# EAGLE library part SSW-122-02-S-Q (library con-samtec)
THROUGH-HOLE .025" SQ POST SOCKET Source: Samtec SSW.pdf
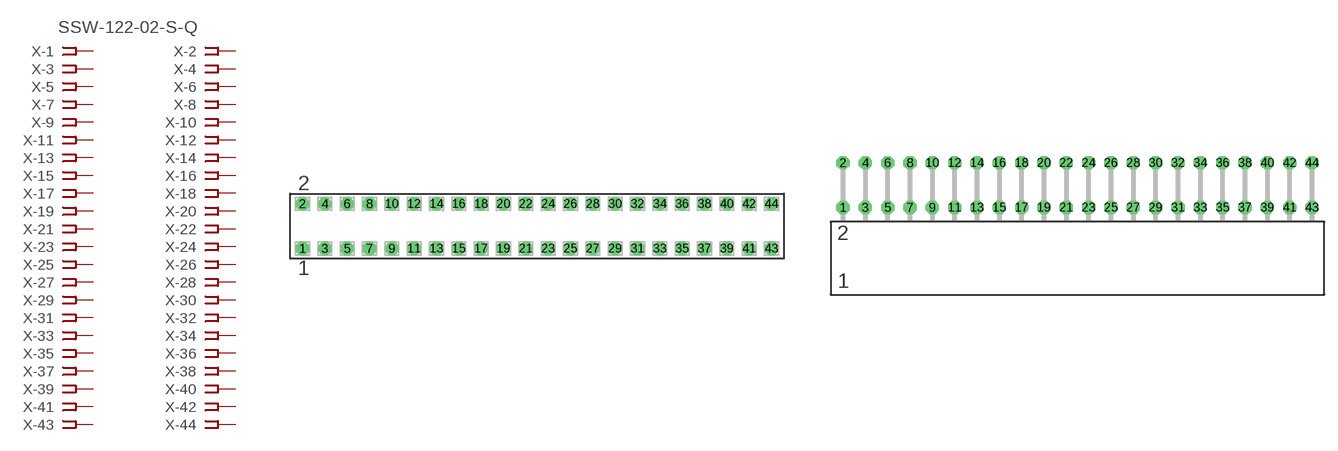
[diagram p126: symbol with the pads of SSW-122-02-S-Q; footprints SSW-122-02-S-Q, SSW-122-02-S-Q-RA]

Designator prefix X; gates -1=FPINV -2=FPIN -3=FPIN -4=FPIN -5=FPIN -6=FPIN -7=FPIN -8=FPIN -9=FPIN -10=FPIN -11=FPIN -12=FPIN -13=FPIN -14=FPIN -15=FPIN -16=FPIN -17=FPIN -18=FPIN -19=FPIN -20=FPIN -21=FPIN -22=FPIN -23=FPIN -24=FPIN -25=FPIN -26=FPIN -27=FPIN -28=FPIN -29=FPIN -30=FPIN -31=FPIN -32=FPIN -33=FPIN -34=FPIN -35=FPIN -36=FPIN -37=FPIN -38=FPIN -39=FPIN -40=FPIN -41=FPIN -42=FPIN -43=FPIN -44=FPIN

## SSW-122-02-S-Q  [SSW-122-02-S-Q]
1  -1:1  pas
2  -2:1  pas
3  -3:1  pas
4  -4:1  pas
5  -5:1  pas
6  -6:1  pas
7  -7:1  pas
8  -8:1  pas
9  -9:1  pas
10  -10:1  pas
11  -11:1  pas
12  -12:1  pas
13  -13:1  pas
14  -14:1  pas
15  -15:1  pas
16  -16:1  pas
17  -17:1  pas
18  -18:1  pas
19  -19:1  pas
20  -20:1  pas
21  -21:1  pas
22  -22:1  pas
23  -23:1  pas
24  -24:1  pas
25  -25:1  pas
26  -26:1  pas
27  -27:1  pas
28  -28:1  pas
29  -29:1  pas
30  -30:1  pas
31  -31:1  pas
32  -32:1  pas
33  -33:1  pas
34  -34:1  pas
35  -35:1  pas
36  -36:1  pas
37  -37:1  pas
38  -38:1  pas
39  -39:1  pas
40  -40:1  pas
41  -41:1  pas
42  -42:1  pas
43  -43:1  pas
44  -44:1  pas

## SSW-122-02-S-QRA  [SSW-122-02-S-Q-RA]
Pads as for SSW-122-02-S-Q

## Footprint SSW-122-02-S-Q (pad centres in mm)
THROUGH-HOLE .025" SQ POST SOCKET Source: Samtec SSW.pdf
drill 1 pad 1.5 octagon: 1 -26.67,-2.54; 2 -26.67,2.54; 3 -24.13,-2.54; 4 -24.13,2.54; 5 -21.59,-2.54; 6 -21.59,2.54; 7 -19.05,-2.54; 8 -19.05,2.54; 9 -16.51,-2.54; 10 -16.51,2.54; 11 -13.97,-2.54; 12 -13.97,2.54; 13 -11.43,-2.54; 14 -11.43,2.54; 15 -8.89,-2.54; 16 -8.89,2.54; 17 -6.35,-2.54; 18 -6.35,2.54; 19 -3.81,-2.54; 20 -3.81,2.54; 21 -1.27,-2.54; 22 -1.27,2.54; 23 1.27,-2.54; 24 1.27,2.54; 25 3.81,-2.54; 26 3.81,2.54; 27 6.35,-2.54; 28 6.35,2.54; 29 8.89,-2.54; 30 8.89,2.54; 31 11.43,-2.54; 32 11.43,2.54; 33 13.97,-2.54; 34 13.97,2.54; 35 16.51,-2.54; 36 16.51,2.54; 37 19.05,-2.54; 38 19.05,2.54; 39 21.59,-2.54; 40 21.59,2.54; 41 24.13,-2.54; 42 24.13,2.54; 43 26.67,-2.54; 44 26.67,2.54

## Footprint SSW-122-02-S-Q-RA (pad centres in mm)
THROUGH-HOLE .025" SQ POST SOCKET Source: Samtec SSW.pdf
drill 1 pad 1.5 octagon: 1 -26.67,1.524; 2 -26.67,6.604; 3 -24.13,1.524; 4 -24.13,6.604; 5 -21.59,1.524; 6 -21.59,6.604; 7 -19.05,1.524; 8 -19.05,6.604; 9 -16.51,1.524; 10 -16.51,6.604; 11 -13.97,1.524; 12 -13.97,6.604; 13 -11.43,1.524; 14 -11.43,6.604; 15 -8.89,1.524; 16 -8.89,6.604; 17 -6.35,1.524; 18 -6.35,6.604; 19 -3.81,1.524; 20 -3.81,6.604; 21 -1.27,1.524; 22 -1.27,6.604; 23 1.27,1.524; 24 1.27,6.604; 25 3.81,1.524; 26 3.81,6.604; 27 6.35,1.524; 28 6.35,6.604; 29 8.89,1.524; 30 8.89,6.604; 31 11.43,1.524; 32 11.43,6.604; 33 13.97,1.524; 34 13.97,6.604; 35 16.51,1.524; 36 16.51,6.604; 37 19.05,1.524; 38 19.05,6.604; 39 21.59,1.524; 40 21.59,6.604; 41 24.13,1.524; 42 24.13,6.604; 43 26.67,1.524; 44 26.67,6.604